# EAGLE library part MCP2562-E_P (library MCP2562-E_P)
CAN Transceiver 1Mbps 5V 125degC PDIP8 Microchip MCP2562-E/P, CAN Transceiver 1-channel IEC 61000-4-2, 8-Pin PDIP Source: Datasheet <http://uk.rs-online.com/web/p/products/1460216>
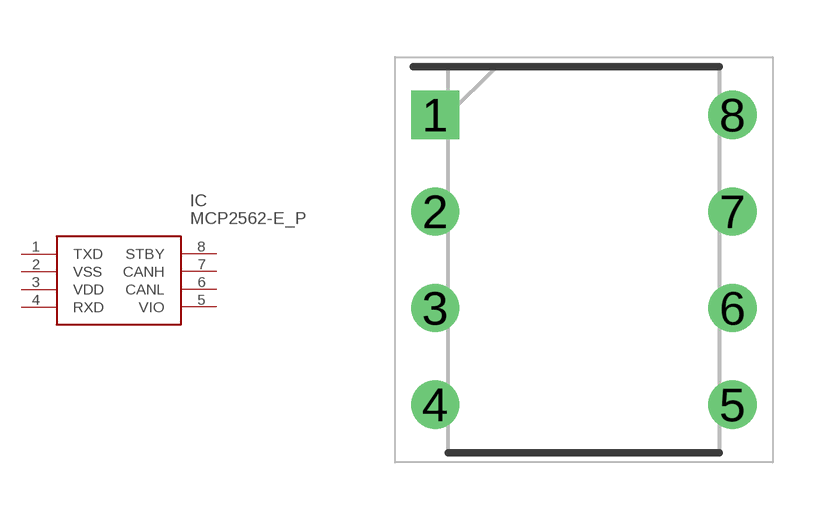
[diagram p0: symbol with the pads of DIP781W56P254L950H533Q8N; footprint DIP781W56P254L950H533Q8N]

Designator prefix IC

## MCP2562-E_P (Allied_Number: 70415106; Description: CAN Transceiver 1Mbps 5V 125degC PDIP8 Microchip MCP2562-E/P, CAN Transceiver 1-channel IEC 61000-4-2, 8-Pin PDIP; Height: 5.334mm; Manufacturer_Name: Microchip; Manufacturer_Part_Number: MCP2562-E/P; RS_Part_Number: 1460216)  [DIP781W56P254L950H533Q8N]
1  TXD
2  VSS
3  VDD
4  RXD
5  VIO
6  CANL
7  CANH
8  STBY

## Footprint DIP781W56P254L950H533Q8N (pad centres in mm)
8-Lead Plastic Dual In-Line (P) - 300 mil Body [PDIP]
drill 0.759 pad 1.159 square: 1 -3.905,3.81
drill 0.759 pad 1.159: 2 -3.905,1.27; 3 -3.905,-1.27; 4 -3.905,-3.81; 5 3.905,-3.81; 6 3.905,-1.27; 7 3.905,1.27; 8 3.905,3.81